# Altium schematic symbol library KGM21NR71H681KT.SchLib: 1 symbol
Pins are listed as number, name and electrical type; pins without a type are passive.

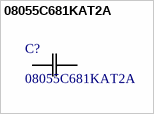
[diagram p0: symbol 08055C681KAT2A]

## 08055C681KAT2A
designator C?
No Description Available; Manufacturer_Name: KYOCERA AVX; Copyright: Copyright (C) 2026 Ultra Librarian. All rights reserved.; Manufacturer_Part_Number: 08055C681KAT2A
footprint 0805_AVX
pins: 1, 2